# EAGLE library part EXT-PORT-AGB (library arcadetv)
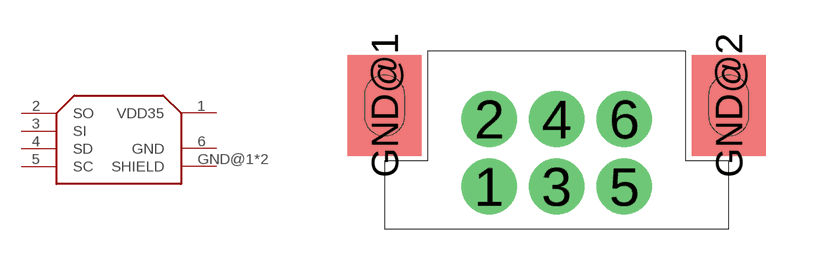
[diagram p17: symbol with the pads of EXT-PORT-AGB; footprint EXT-PORT-AGB]

Designator prefix -

## EXT-PORT-AGB  [EXT-PORT-AGB]
1  VDD35
2  SO
3  SI
4  SD
5  SC
6  GND
GND@1  SHIELD
GND@2  SHIELD

## Footprint EXT-PORT-AGB (pad centres in mm)
drill 1.1: 1 -2,0; 2 -2,2; 3 0,0; 4 0,2; 5 2,0; 6 2,2
smd 2.2 x 3: GND@1 -5.1,2.4; GND@2 5.1,2.4